# Altium schematic symbol library Schlib1.SchLib: 19 symbols
Pins are listed as number, name and electrical type; pins without a type are passive.

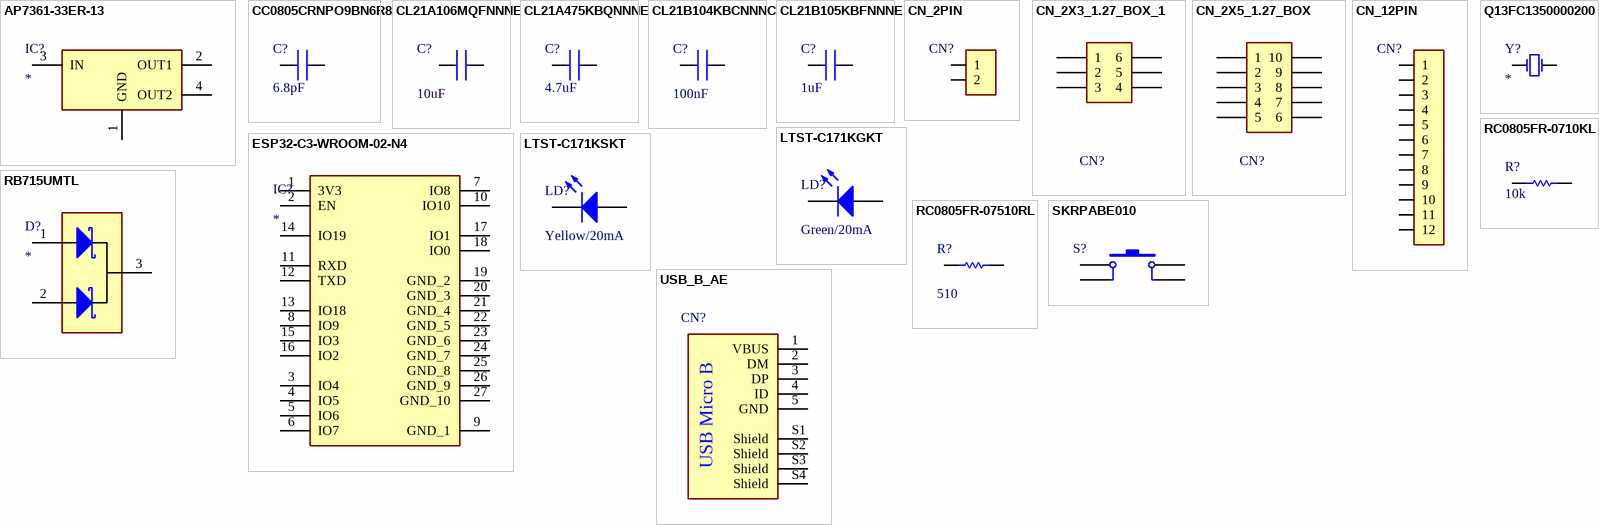
[diagram p0: symbols AP7361-33ER-13 to USB_B_AE]

## AP7361-33ER-13
designator IC?
LDO; Manufacturer_Name: Diodes Inc.; Manufacturer_Part_Number: AP7361-33ER-13; Value: 3.3V; Datasheet Link: https://www.diodes.com/assets/Datasheets/AP7361.pdf; Height: 1.8mm; Mouser Part Number: 621-AP7361-33ER-13; Mouser Price/Stock: https://www.mouser.co.uk/ProductDetail/Diodes-Incorporated/AP7361-33ER-13?qs=gfe7vQ8txpWHFbeC09g4Zw%3D%3D; Arrow Part Number: AP7361-33ER-13; Arrow Price/Stock: https://www.arrow.com/en/products/ap7361-33er-13/diodes-incorporated?region=nac
footprint SOT230P700X180-4N
pins: 1 GND, 2 OUT1, 3 IN, 4 OUT2

## CC0805CRNPO9BN6R8
designator C?  value 6.8pF  (hidden comment: *)
Capacitor; Manufacturer_Name: YAGEO (PHYCOMP); Manufacturer_Part_Number: CC0805CRNPO9BN6R8; Datasheet Link: https://componentsearchengine.com/Datasheets/1/CC0805CRNPO9BN6R8.pdf; Height: 0.7mm; Mouser Part Number: 603-CC805CRNPO9BN6R8; Mouser Price/Stock: https://www.mouser.co.uk/ProductDetail/YAGEO/CC0805CRNPO9BN6R8?qs=5q%252BqlK8CmJQXpKtionjueA%3D%3D
footprint CAPC2012X94N
pins: 1, 2

## CL21A106MQFNNNE
designator C?  value 10uF  (hidden comment: *)
Capacitor; Manufacturer_Name: Samsung Electro-Mechanics; Manufacturer_Part_Number: CL21A106MQFNNNE; Datasheet Link: https://componentsearchengine.com/Datasheets/2/CL21A106MQFNNNE.pdf; Height: 1.35mm; Mouser Part Number: 187-CL21A106MQFNNNE; Mouser Price/Stock: https://www.mouser.co.uk/ProductDetail/Samsung-Electro-Mechanics/CL21A106MQFNNNE?qs=yOVawPpwOwn3DWwGbD%252BRZA%3D%3D; Arrow Part Number: CL21A106MQFNNNE; Arrow Price/Stock: https://www.arrow.com/en/products/cl21a106mqfnnne/samsung-electro-mechanics
footprint CAPC2012X135N (Capacitor)
pins: 1, 2

## CL21A475KBQNNNE
designator C?  value 4.7uF  (hidden comment: *)
Capacitor; Manufacturer_Name: Samsung Electro-Mechanics; Manufacturer_Part_Number: CL21A475KBQNNNE; Datasheet Link: https://www.mouser.fr/datasheet/2/585/MLCC-1837944.pdf; Height: 1.35mm; Mouser Part Number: 187-CL21A475KBQNNNE
footprint CAPC2012X135N
pins: 1, 2

## CL21B104KBCNNNC
designator C?  value 100nF  (hidden comment: *)
Capacitor; Manufacturer_Name: Samsung Electro-Mechanics; Manufacturer_Part_Number: CL21B104KBCNNNC; Datasheet Link: https://datasheet.datasheetarchive.com/originals/distributors/Datasheets_SAMA/86a3eaf0882763ef32124d5901f9b833.pdf; Height: 0.95mm; Mouser Part Number: 187-CL21B104KBCNNNC; Mouser Price/Stock: https://www.mouser.co.uk/ProductDetail/Samsung-Electro-Mechanics/CL21B104KBCNNNC?qs=349EhDEZ59pEfpnm5yBEmQ%3D%3D; Arrow Part Number: CL21B104KBCNNNC; Arrow Price/Stock: https://www.arrow.com/en/products/cl21b104kbcnnnc/samsung-electro-mechanics?region=europe
footprint CAPC2012X94N
pins: 1, 2

## CL21B105KBFNNNE
designator C?  value 1uF  (hidden comment: *)
Capacitor; Manufacturer_Name: Samsung Electro-Mechanics; Manufacturer_Part_Number: CL21B105KBFNNNE; Datasheet Link: https://componentsearchengine.com/Datasheets/2/CL21B105KBFNNNE.pdf; Height: 1.35mm; Mouser Part Number: 187-CL21B105KBFNNNE; Mouser Price/Stock: https://www.mouser.co.uk/ProductDetail/Samsung-Electro-Mechanics/CL21B105KBFNNNE?qs=yOVawPpwOwmddQEBPU6Y9A%3D%3D; Arrow Part Number: CL21B105KBFNNNE; Arrow Price/Stock: https://www.arrow.com/en/products/cl21b105kbfnnne/samsung-electro-mechanics?region=europe
footprint CAPC2012X135N
pins: 1, 2

## CN_2PIN
designator CN?  (value not drawn)
Connector
footprint CN_2PIN (Connector; Edge; 22 Position)
pins: 1, 2

## CN_2X3_1.27_BOX_1
designator CN?  (value not drawn)
Connector
footprint CN_2X3_1.27_BOX_TH (Connector)
pins: 1, 2, 3, 4, 5, 6

## CN_2X5_1.27_BOX
designator CN?  (value not drawn)
Connector
footprint CN_2X5_1.27_BOX_TH (Connector)
pins: 1, 2, 3, 4, 5, 6, 7, 8, 9, 10

## CN_12PIN
designator CN?  (value not drawn)
Connector
footprint CN_12PIN (Connector)
pins: 1, 2, 3, 4, 5, 6, 7, 8, 9, 10, 11, 12

## ESP32-C3-WROOM-02-N4
designator IC?
Integrated Circuit; Manufacturer_Name: Espressif Systems; Manufacturer_Part_Number: ESP32-C3-WROOM-02-N4; Datasheet Link: https://www.mouser.ch/datasheet/2/891/Espressif_ESP32_C3_WROOM_02-2006871.pdf; Height: 3.35mm; Mouser Part Number: 356-ESP32C3WROOM02N4; Mouser Price/Stock: https://www.mouser.co.uk/ProductDetail/Espressif-Systems/ESP32-C3-WROOM-02-N4?qs=stqOd1AaK7%2FqjTZKEOgfUg%3D%3D
footprint ESP32C3WROOM02N4
pins: 1 3V3, 2 EN, 3 IO4, 4 IO5, 5 IO6, 6 IO7, 7 IO8, 8 IO9, 9 GND_1, 10 IO10, 11 RXD, 12 TXD, 13 IO18, 14 IO19, 15 IO3, 16 IO2, 17 IO1, 18 IO0, 19 GND_2, 20 GND_3, 21 GND_4, 22 GND_5, 23 GND_6, 24 GND_7, 25 GND_8, 26 GND_9, 27 GND_10

## LTST-C171KGKT
designator LD?  value Green/20mA  (hidden comment: *)
LED; Manufacturer_Name: Lite-On; Manufacturer_Part_Number: LTST-C171KGKT; Datasheet Link: https://optoelectronics.liteon.com/upload/download/DS22-2000-118/LTST-C171KGKT.pdf; Height: 0.9mm; Mouser Part Number: 859-LTST-C171KGKT; Mouser Price/Stock: https://www.mouser.co.uk/ProductDetail/Lite-On/LTST-C171KGKT?qs=j1zysehuyChA38z%2F%252BFfUSw%3D%3D; Arrow Part Number: LTST-C171KGKT; Arrow Price/Stock: https://www.arrow.com/en/products/ltst-c171kgkt/lite-on-technology?region=nac
footprint LEDC2012X85N_G
pins: 1 K, 2 A

## LTST-C171KSKT
designator LD?  value Yellow/20mA  (hidden comment: *)
LED; Manufacturer_Name: Lite-On; Manufacturer_Part_Number: LTST-C171KSKT; Datasheet Link: https://componentsearchengine.com/Datasheets/1/LTST-C171KSKT.pdf; Height: 0.9mm; Mouser Part Number: 859-LTST-C171KSKT; Mouser Price/Stock: https://www.mouser.co.uk/ProductDetail/Lite-On/LTST-C171KSKT?qs=llMtm9xcdM0CwR1bByTaUQ%3D%3D; Arrow Part Number: LTST-C171KSKT; Arrow Price/Stock: https://www.arrow.com/en/products/ltst-c171kskt/lite-on-technology?region=nac
footprint LEDC2012X85N_Y
pins: 1 K, 2 A

## Q13FC1350000200
designator Y?
Crystal; Manufacturer_Name: SEIKO EPSON; Manufacturer_Part_Number: Q13FC1350000200; Value: 32.768kHz/7pF/70kOhms; Datasheet Link: https://datasheet.lcsc.com/szlcsc/Seiko-Epson-Q13FC1350000200_C48615.pdf; Height: 0.9mm
footprint Q13FC1350000200
pins: 1, 2

## RB715UMTL
designator D?
Schottky Diode; Manufacturer_Name: ROHM Semiconductor; Manufacturer_Part_Number: RB715UMTL; Datasheet Link: http://uk.rs-online.com/web/p/products/1835297; Height: 1mm; Mouser Part Number: 755-RB715UMTL; Mouser Price/Stock: https://www.mouser.co.uk/ProductDetail/ROHM-Semiconductor/RB715UMTL?qs=HXFqYaX1Q2wTXMfu8QxCQg%3D%3D
footprint DAN217UMTL
pins: 1 K_1, 2 K_2, 3 COM_A

## RC0805FR-0710KL
designator R?  value 10k  (hidden comment: *)
Resistor; Manufacturer_Name: YAGEO (PHYCOMP); Manufacturer_Part_Number: RC0805FR-0710KL; Datasheet Link: https://datasheet.datasheetarchive.com/originals/distributors/Datasheets_SAMA/902f9e387b938f871d31120f5fc1d65e.pdf; Height: 0.6mm; Mouser Part Number: 603-RC0805FR-0710KL; Mouser Price/Stock: https://www.mouser.co.uk/ProductDetail/YAGEO/RC0805FR-0710KL?qs=7bY8808IzHq6vrU3BeiiYw%3D%3D; Arrow Part Number: RC0805FR-0710KL; Arrow Price/Stock: https://www.arrow.com/en/products/rc0805fr-0710kl/yageo?region=europe
footprint RESC2012X60N (Resistor)
pins: 1, 2

## RC0805FR-07510RL
designator R?  value 510  (hidden comment: *)
Resistor; Manufacturer_Name: YAGEO (PHYCOMP); Manufacturer_Part_Number: RC0805FR-07510RL; Datasheet Link: https://datasheet.datasheetarchive.com/originals/distributors/Datasheets_SAMA/902f9e387b938f871d31120f5fc1d65e.pdf; Height: 0.6mm; Mouser Part Number: 603-RC0805FR-07510RL; Mouser Price/Stock: https://www.mouser.com/Search/Refine.aspx?Keyword=603-RC0805FR-07510RL
footprint RESC2012X60N
pins: 1, 2

## SKRPABE010
designator S?  (value not drawn)
Switch; Manufacturer_Name: ALPS Electric; Manufacturer_Part_Number: SKRPABE010; Datasheet Link: https://datasheet.lcsc.com/szlcsc/ALPS-Electric-SKRPABE010_C115360.pdf; Height: 2.5mm; Mouser Part Number: 688-SKRPAB; Mouser Price/Stock: https://www.mouser.co.uk/ProductDetail/Alps-Alpine/SKRPABE010?qs=m0BA540hBPe1GpcSf%2FZ5Yw%3D%3D
footprint PTS815SJM250SMTRLFS
pins: 1, 2, 3, 4

## USB_B_AE
designator CN?  (value not drawn)
USB connector
footprint USB_B_AE
pins: 1 VBUS, 2 DM, 3 DP, 4 ID, 5 GND, S1 Shield, S2 Shield, S3 Shield, S4 Shield
text: USB Micro B